# EAGLE library part OPENLOG (library LearningByMaking)
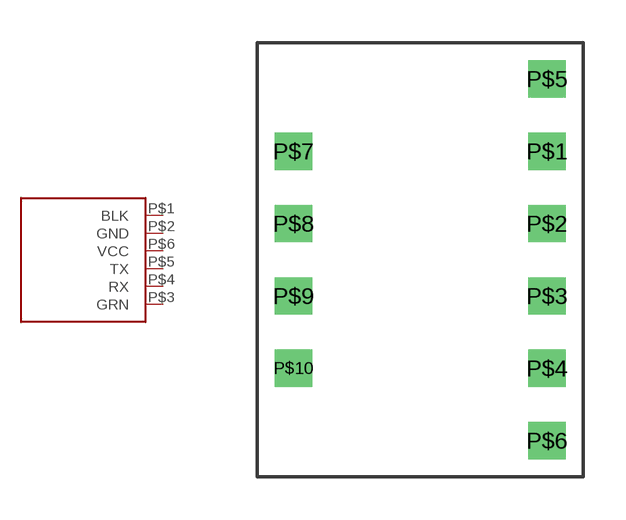
[diagram p3: symbol with the pads of OPENLOG; footprint OPENLOG]

Designator prefix -

## OPENLOG  [OPENLOG]
P$1  BLK
P$2  GND
P$3  GRN
P$4  RX
P$5  TX
P$6  VCC

## Footprint OPENLOG (pad centres in mm)
drill 0.8 square: P$1 0,3.81; P$2 0,1.27; P$3 0,-1.27; P$4 0,-3.81; P$5 0,6.35; P$6 0,-6.35; P$7 -8.89,3.81; P$8 -8.89,1.27; P$9 -8.89,-1.27; P$10 -8.89,-3.81